# Altium footprint library PreAmp_PcbLib.PcbLib: 6 footprints
Each footprint in its own frame and in the unit in brackets; x right, y up, seen from the top. Pads: shape width x height; smd on the part's side, far side on the other; paste and mask are expansions set on the pad; w line width, h text height; cw(c..) or ccw(c..) is an arc to the next point about the centre after c.
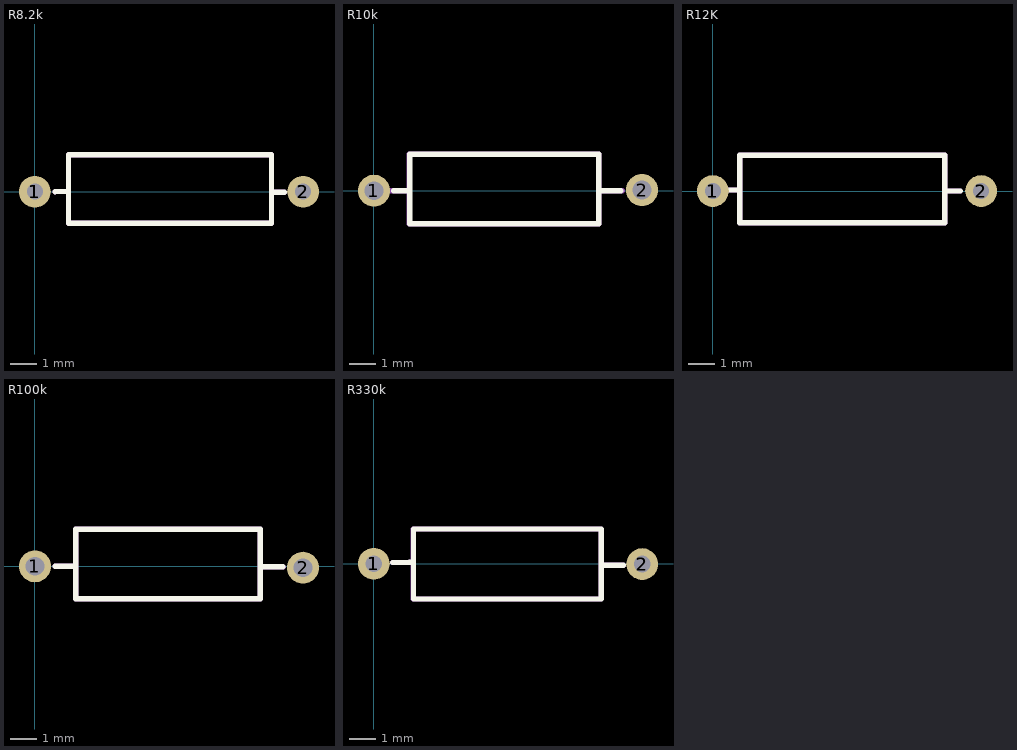
[diagram p0: the footprints below, top view; thin cyan lines are the x and y axes]

## PCBComponent_1 [mm]

## R8.2k [mm]
pads (4):
  round 1.2 hole 0.6: 1(0,0) 1(0,0) 2(10.135,0) 2(10.135,0)
Top Overlay:
  lines w0.2: 0.761,0.003 1.271,0.007 ; 8.941,-0.025 9.423,-0.025 ; 1.27,-1.194 8.941,-1.194 8.941,1.397 1.27,1.397 1.27,-1.194
Assembly layer:
  lines w0.2: 0.761,0.003 1.271,0.007 ; 8.941,-0.025 9.423,-0.025 ; 1.27,-1.194 8.941,-1.194 8.941,1.397 1.27,1.397 1.27,-1.194
  text "'.Designator'" at 2.74,2.048 h1.2
3D body "User Library-Res40-Axial 0_25W-8_2K.step": height 2.41, standoff -2, extent -0.3,-1.098 10.46,1.302
3D body "User Library-Res40-Axial 0_25W-8_2K.step": height 2.41, standoff -2, extent -0.3,-1.098 10.46,1.302

## R10k [mm]
pads (2):
  round 1.2 hole 0.7: 1(0,0) 2(10.058,0.025)
Top Overlay:
  lines w0.2: 0.737,0 1.337,0 ; 8.433,0 9.271,0 ; 1.337,0 1.337,-1.245 8.433,-1.245 8.433,1.372 1.337,1.372 1.337,0
Assembly layer:
  lines w0.2: -0.305,0 1.321,0 ; 8.458,0 9.322,0 ; 1.321,0 1.321,-1.245 8.433,-1.245 8.433,1.372 1.321,1.372 1.321,0
  text "'.Designator'" at 1.978,1.108 h1.2
3D body "User Library-Res40-Axial Short 0_25W-10K.step": height 2.41, standoff -2, extent -0.33,-1.143 10.43,1.257

## R12K [mm]
pads (4):
  round 1.2 hole 0.6: 1(0,0) 1(0,0) 2(10.135,0) 2(10.135,0)
Top Overlay:
  lines w0.2: 0.559,0.038 1.016,0.038 ; 8.86,0 9.347,0 ; 1.016,-1.194 1.016,1.346 8.763,1.346 8.763,-1.194 1.016,-1.194
Assembly layer:
  lines w0.2: 0.559,0.038 1.016,0.038 ; 8.86,0 9.347,0 ; 1.016,-1.194 1.016,1.346 8.763,1.346 8.763,-1.194 1.016,-1.194
  text "'.Designator'" at 2.461,1.082 h1.2
3D body "User Library-Res40-Axial 0_25W-12K.step": height 2.41, standoff -2, extent -0.305,-1.149 10.455,1.251
3D body "User Library-Res40-Axial 0_25W-12K.step": height 2.41, standoff -2, extent -0.305,-1.149 10.455,1.251

## R100k [mm]
pads (2):
  round 1.2 hole 0.7: 1(0,0) 2(10.058,-0.051)
Top Overlay:
  lines w0.2: 0.762,0 1.524,0 ; 8.509,-0.013 9.296,-0.013 ; 1.524,0 1.524,1.397 8.458,1.397 8.458,-1.219 1.524,-1.219 1.524,0
Assembly layer:
  lines w0.2: 0.762,0 1.524,0 ; 8.458,-0.025 9.322,-0.025 ; 1.524,0 1.524,-1.219 8.458,-1.219 8.458,1.397 1.524,1.397 1.524,0
  text "'.Designator'" at 2.613,1.209 h1.2
3D body "User Library-Res40-Axial 0_25W-100K.step": height 2.41, standoff -2, extent -0.325,-1.124 10.435,1.276

## R330k [mm]
pads (4):
  round 1.2 hole 0.63: 1(-0.003,0) 1(0,0) 2(10.154,-0.013) 2(10.156,-0.013)
Top Overlay:
  lines w0.2: 0.707,0.043 1.36,0.056 ; 8.604,-0.055 9.451,-0.055 ; 1.496,-1.338 1.496,1.316 8.604,1.316 8.604,-1.338 1.496,-1.338
Assembly layer:
  lines w0.2: 0.704,0.043 1.357,0.055 ; 8.602,-0.055 9.449,-0.055 ; 1.493,-1.338 1.493,1.316 8.602,1.316 8.602,-1.338 1.493,-1.338
  text "'.Designator'" at 2.059,1.638 h1.2
3D body "User Library-Res40-Axial 0_25W-330K.step": height 2.41, standoff -2, extent -0.301,-1.211 10.459,1.189
3D body "User Library-Res40-Axial 0_25W-330K.step": height 2.41, standoff -2, extent -0.304,-1.211 10.456,1.189